# Altium schematic symbol library CC2530_MYDESIGNV1.SCHLIB: 15 symbols
Pins are listed as number, name and electrical type; pins without a type are passive.

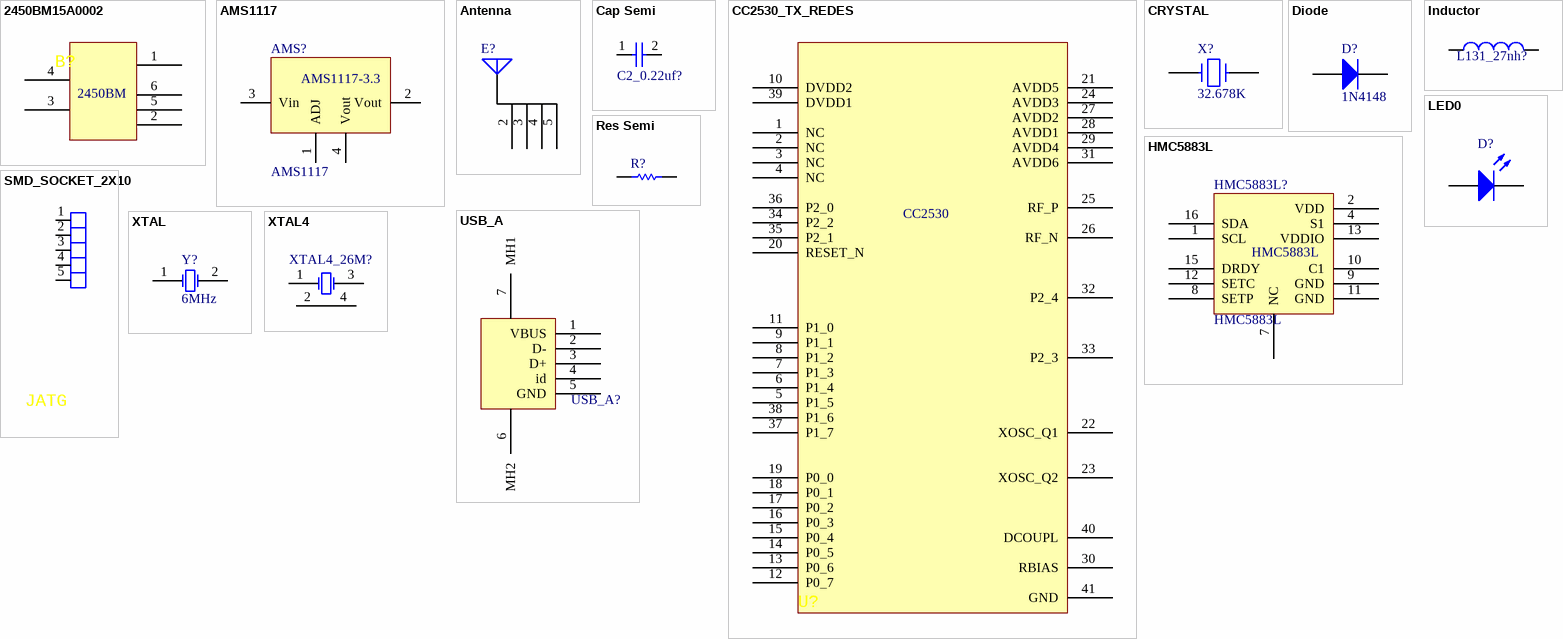
[diagram p0: symbols 2450BM15A0002 to XTAL4]

## 2450BM15A0002
designator B?  (value not drawn)
Johanson Balun adopted internally matched to CC2530; pick_and_place: P
footprint 2450BM15A0002
pins: 1, 2, 3, 4, 5, 6
text: 2450BM

## AMS1117
designator AMS?
footprint AMS1117
pins: 1 ADJ, 2 Vout, 3 Vin, 4 Vout
text: AMS1117-3.3

## Antenna
designator E?  (value not drawn)
Generic Antenna; Published: 24-Mar-1999; LatestRevisionDate: 17-Jul-2002; LatestRevisionNote: Re-released for DXP Platform.; PackageReference: PIN1; Publisher: Altium Limited
footprint antenna
pins: 1 A, 2, 3, 4, 5

## Cap Semi
designator C2_0.22uf?  (value not drawn)
Capacitor (Semiconductor SIM Model); Value: 0.22uF; Published: 8-Jun-2000; LatestRevisionDate: 17-Jul-2002; LatestRevisionNote: Re-released for DXP Platform.; PackageReference: C1206; Publisher: Altium Limited
footprint 0402 (REFLOW LF)
pins: 1, 2

## CC2530_TX_REDES
designator U?  (value not drawn)
Single chip SoC; pick_and_place: P
footprint QLP40 (Reflow)
pins: 1 NC, 2 NC, 3 NC, 4 NC, 5 P1_5, 6 P1_4, 7 P1_3, 8 P1_2, 9 P1_1, 10 DVDD2, 11 P1_0, 12 P0_7, 13 P0_6, 14 P0_5, 15 P0_4, 16 P0_3, 17 P0_2, 18 P0_1, 19 P0_0, 20 RESET_N, 21 AVDD5, 22 XOSC_Q1, 23 XOSC_Q2, 24 AVDD3, 25 RF_P, 26 RF_N, 27 AVDD2, 28 AVDD1, 29 AVDD4, 30 RBIAS, 31 AVDD6, 32 P2_4, 33 P2_3, 34 P2_2, 35 P2_1, 36 P2_0, 37 P1_7, 38 P1_6, 39 DVDD1, 40 DCOUPL, 41 GND
text: CC2530

## CRYSTAL
designator X?, comment 32.678K
Crystal
footprint xtal_0
footprint XTAL4
footprint XTAL
footprint xtal8m
pins: 1, 2
2 alternate drawings of the same symbol

## Diode
designator D?, comment 1N4148
Default Diode; Published: 8-Jun-2000; LatestRevisionDate: 17-Jul-2002; LatestRevisionNote: Re-released for DXP Platform.; PackageDocument: Sep-1996; PackageReference: SMC; Publisher: Altium Limited; Code_JEDEC: DO-214-AB
footprint D1206
simulation model DIODE (Diode)
signal-integrity model Diode
footprint 1206D
pins: 1 A, 2 K

## HMC5883L
designator HMC5883L?
footprint HMC5883L
pins: 1 SCL, 2 VDD, 4 S1, 7 NC, 8 SETP, 9 GND, 10 C1, 11 GND, 12 SETC, 13 VDDIO, 15 DRDY, 16 SDA

## Inductor
designator L131_27nh?  (value not drawn)
Code_IEC: 1005; Value: 27nH; Published: 8-Jun-2000; LatestRevisionDate: 17-Jul-2002; LatestRevisionNote: Re-released for DXP Platform.; PackageReference: 0402-A; Publisher: Altium Limited; Code_JEITA: 0402
footprint 0402 (REFLOW LF)
pins: 1, 2

## LED0
designator D?, comment LED3  (value not drawn)
Typical INFRARED GaAs LED; Published: 8-Jun-2000; LatestRevisionDate: 08-Jul-2005; LatestRevisionNote: Mech Layer 1 removed.; PackageReference: LED-0; Publisher: Altium Limited; PackageDescription: LED; 2 Leads
footprint LED-0 (LED; 2 Leads)
simulation model LED0 (Diode)
footprint LED
footprint LED
pins: 1 A, 2 K

## Res Semi
designator R?  (value not drawn)
Semiconductor Resistor; Value: 10K; Published: 8-Jun-2000; LatestRevisionDate: 17-Jul-2002; LatestRevisionNote: Re-released for DXP Platform.; PackageReference: AXIAL-0.5; Publisher: Altium Limited
footprint 0402 (REFLOW LF)
pins: 1, 2

## SMD_SOCKET_2X10
designator JATG  (value not drawn)
SMD pinrow socket, .050 spacing; pick_and_place: P; link Datasheet: G:\06_TEKNISK\064_Datasheets\Samtec\SFM_SM.pdf
footprint JTAG
pins: 1, 2, 3, 4, 5

## USB_A
designator USB_A?  (value not drawn)
footprint miniUSB
footprint Micro_USB
footprint Micro_USB
footprint Micro_USB
pins: 1 VBUS, 2 D-, 3 D+, 4 id, 5 GND, 6 MH2, 7 MH1

## XTAL
designator Y?, comment 6MHz
Crystal Oscillator; Published: *; Publisher: *; Manufacturer: *; Class: *; SubClass: *
footprint xtal
pins: 1 OSC1, 2 OSC2

## XTAL4
designator XTAL4_26M?  (value not drawn)
footprint XTAL4
pins: 1 OSC1, 2 OSC1, 3 OSC2, 4 OSC1